# Altium schematic symbol library T-Block6.SchLib: 1 symbol
Pins are listed as number, name and electrical type; pins without a type are passive.

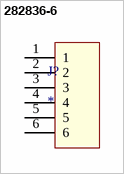
[diagram p0: symbol 282836-6]

## 282836-6
designator J?
Wire to Board 6 Position 5 mm Pitch 30-16 AWG Euro Style Terminal Block; MP: 282836-6; MF: TE Connectivity; EU_RoHS_Compliance: Compliant with Exemptions; Purchase-URL: https://pricing.snapeda.com/search/part/282836-6/?ref=eda; Package: None; Value: *; SnapEDA_Link: https://www.snapeda.com/parts/282836-6/TE+Connectivity+AMP+Connectors/view-part/?ref=snap; Digi-Key_Part_Number: A98339-ND; Check_prices: https://www.snapeda.com/parts/282836-6/TE+Connectivity+AMP+Connectors/view-part/?ref=eda
footprint TE_282836-6
pins: 1, 2, 3, 4, 5, 6